# EAGLE library part SWITCH-2C (library MyLibrary)
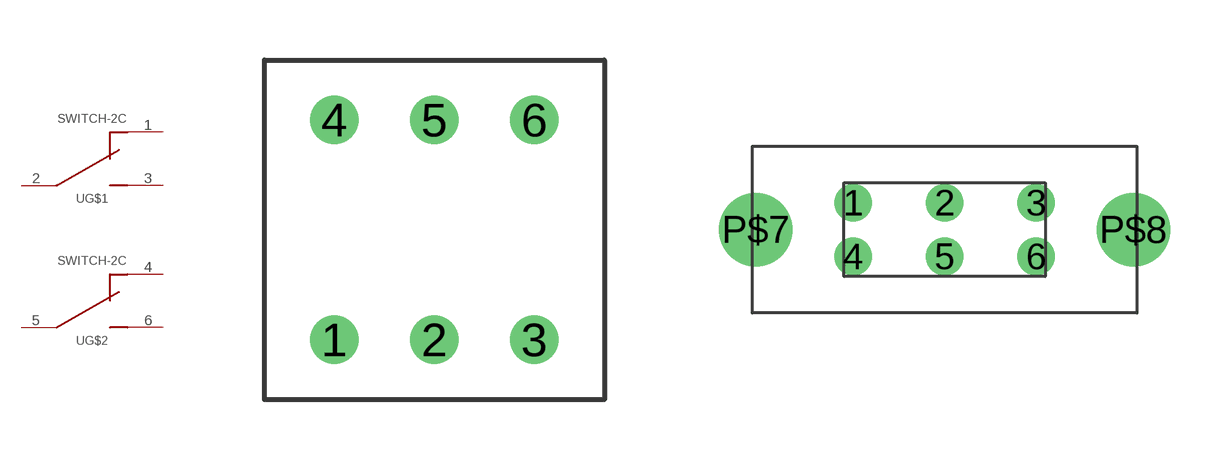
[diagram p4: symbol with the pads of PS-85; footprints PS-85, SS22F06G5]

Designator prefix -; gates G$1=SWITCH-C G$2=SWITCH-C

## SWITCH-2CPS-85  [PS-85]
1  G$1:NC
2  G$1:COM
3  G$1:NO
4  G$2:NC
5  G$2:COM
6  G$2:NO

## SWITCH-2CSS22F06G5  [SS22F06G5]
Pads as for PS-85

## Footprint PS-85 (pad centres in mm)
drill 0.7: 1 -2.5,-2.75; 2 0,-2.75; 3 2.5,-2.75; 4 -2.5,2.75; 5 0,2.75; 6 2.5,2.75

## Footprint SS22F06G5 (pad centres in mm)
drill 1.1: 1 -4,1.175; 2 0,1.175; 3 4,1.175; 4 -4,-1.175; 5 0,-1.175; 6 4,-1.175
drill 2.2: P$7 -8.25,0; P$8 8.25,0